# EAGLE library part MS5611 (library icarus_sensors)
MS5611 pressure sensor in QFN-8 package
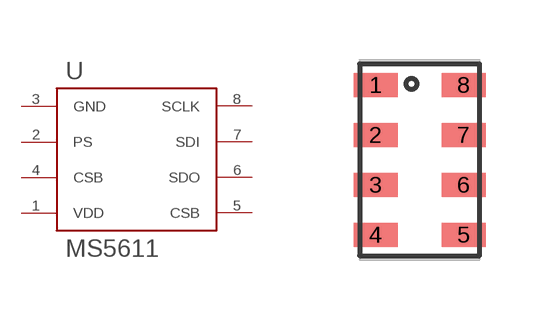
[diagram p1: symbol with the pads of QFN-8; footprint QFN-8]

Designator prefix U

## MS5611  [QFN-8]
1  VDD  pwr
2  PS  pwr
3  GND  pwr
4  CSB  pwr
5  CSB  pwr
6  SDO
7  SDI
8  SCLK

## Footprint QFN-8 (pad centres in mm)
QFN-8 symbol for MS5611 pressure sensor
smd 1.1 x 0.6: 1 -1.1,1.875; 2 -1.1,0.625; 3 -1.1,-0.625; 4 -1.1,-1.875; 5 1.1,-1.875; 6 1.1,-0.625; 7 1.1,0.625; 8 1.1,1.875